# EAGLE library part FTSH-105-01-L-DV-K (library con-samtec)
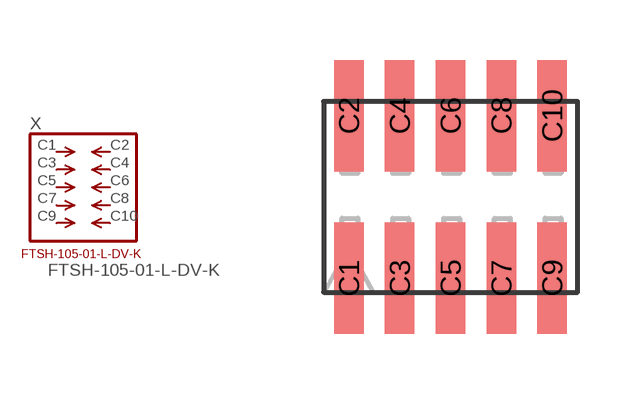
[diagram p0: symbol with the pads of SMD_10PIN_2ROW_1.27MM_SAMTEC; footprint SMD_10PIN_2ROW_1.27MM_SAMTEC]

Designator prefix X

## FTSH-105-01-L-DV-K  [SMD_10PIN_2ROW_1.27MM_SAMTEC]
C1  C1  pas
C2  C2  pas
C3  C3  pas
C4  C4  pas
C5  C5  pas
C6  C6  pas
C7  C7  pas
C8  C8  pas
C9  C9  pas
C10  C10  pas

## Footprint SMD_10PIN_2ROW_1.27MM_SAMTEC (pad centres in mm)
smd 0.737 x 2.794: C1 -2.54,-2.032; C2 -2.54,2.032; C3 -1.27,-2.032; C4 -1.27,2.032; C5 0,-2.032; C6 0,2.032; C7 1.27,-2.032; C8 1.27,2.032; C9 2.54,-2.032; C10 2.54,2.032